# EAGLE library part CD74HC138E (library purdue_cs250)
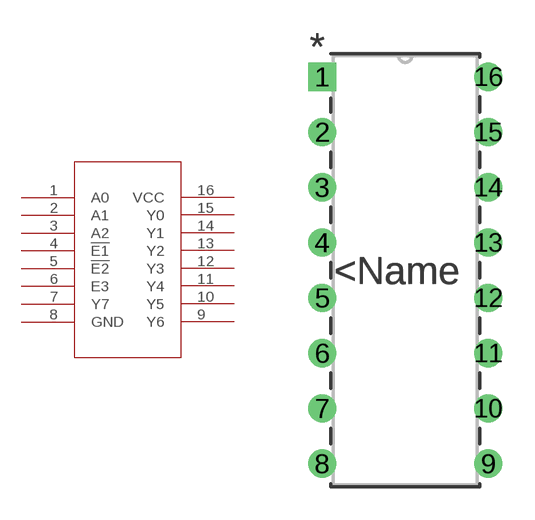
[diagram p1: symbol with the pads of N16; footprint N16]

Designator prefix -

## CD74HC138E (COPYRIGHT: Copyright C 2015 Accelerated Designs. All rights reserved; DESCRIPTION: DecoderDemultiplexer Single 16Pin PDIP; FAMILY: Unknown; MANUFACTURER_NAME: Texas Instruments; MANUFACTURER_PART_NUMBER: CD74HC138E; RSPARTNUMBER: 6630036; SECTION: Unknown; VENDOR: Texas Instruments)  [N16]
1  A0  in
2  A1  in
3  A2  in
4  !E1  in
5  !E2  in
6  E3  in
7  Y7  out
8  GND  pwr
9  Y6  out
10  Y5  out
11  Y4  out
12  Y3  out
13  Y2  out
14  Y1  out
15  Y0  out
16  VCC  pwr

## Footprint N16 (pad centres in mm)
drill 0.787 pad 1.295 square: 1 -7.62,17.78
drill 0.787 pad 1.295: 2 -7.62,15.24; 3 -7.62,12.7; 4 -7.62,10.16; 5 -7.62,7.62; 6 -7.62,5.08; 7 -7.62,2.54; 8 -7.62,0; 9 0,0; 10 0,2.54; 11 0,5.08; 12 0,7.62; 13 0,10.16; 14 0,12.7; 15 0,15.24; 16 0,17.78